# Altium footprint library Connector_Samtec_HLE_SMD.PcbLib: 290 footprints (part 14 of 24)
Each footprint in its own frame and in the unit in brackets; x right, y up, seen from the top. Pads: shape width x height; smd on the part's side, far side on the other; paste and mask are expansions set on the pad; w line width, h text height; cw(c..) or ccw(c..) is an arc to the next point about the centre after c.
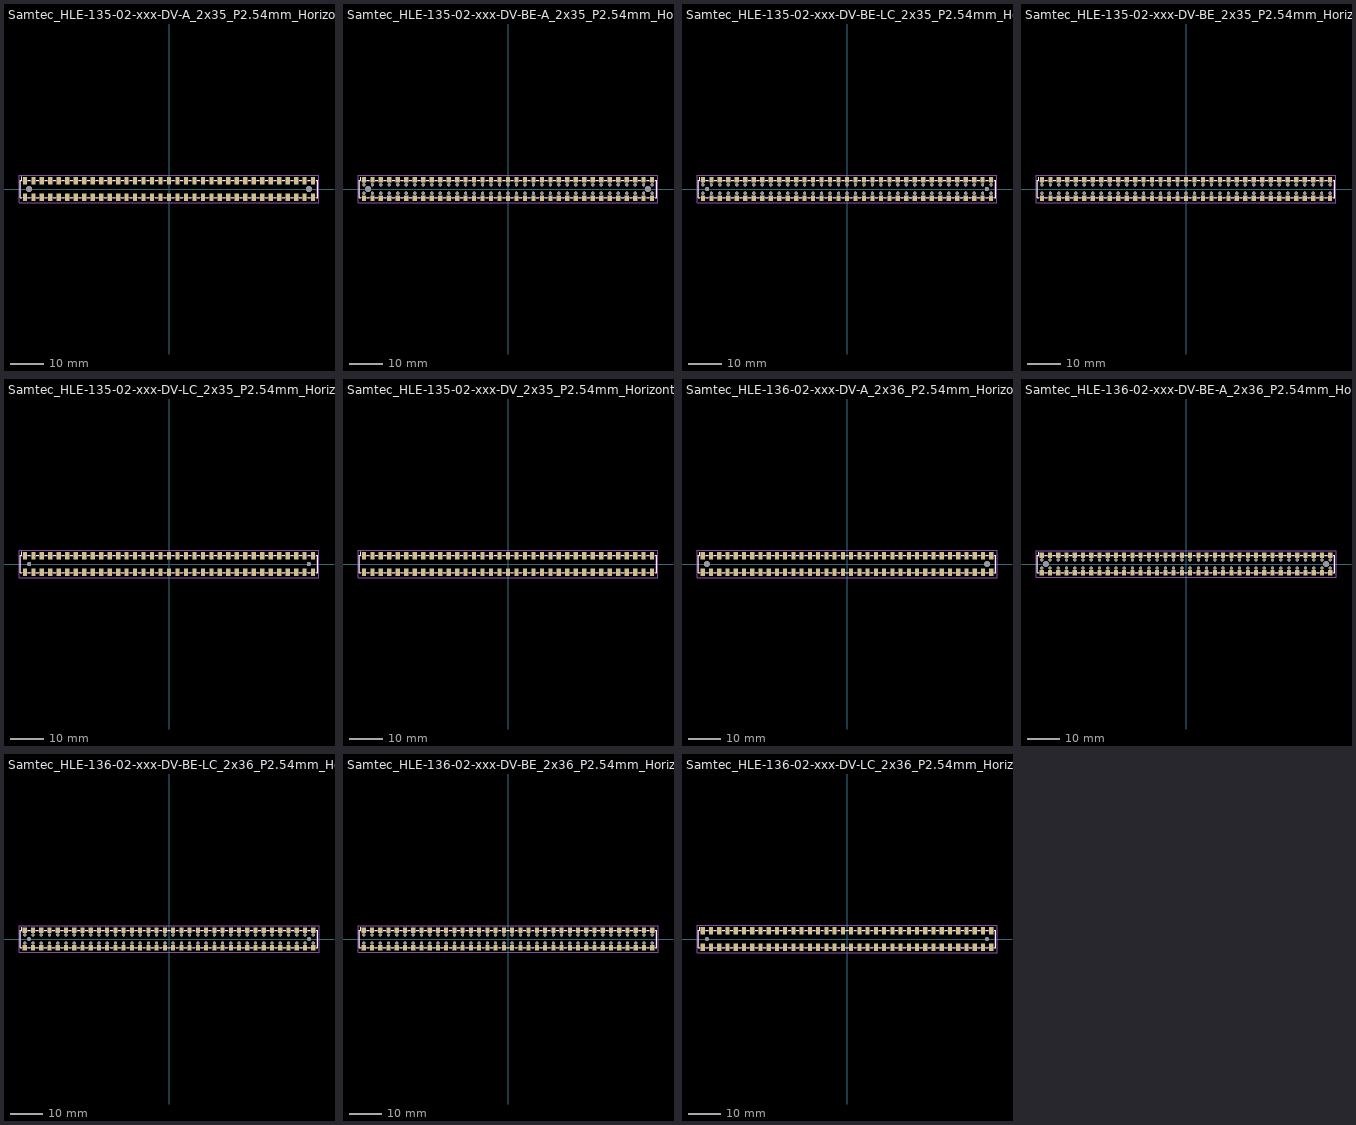
[diagram p13: the footprints below, top view; thin cyan lines are the x and y axes]

## Samtec_HLE-135-02-xxx-DV-A_2x35_P2.54mm_Horizontal [mm]
pads (72):
  rect 1.27x2.29 smd: 1(-43.18,2.525) 2(-43.18,-2.525) 3(-40.64,2.525) 4(-40.64,-2.525) 5(-38.1,2.525) 6(-38.1,-2.525) 7(-35.56,2.525) 8(-35.56,-2.525) 9(-33.02,2.525) 10(-33.02,-2.525) 11(-30.48,2.525) 12(-30.48,-2.525) 13(-27.94,2.525) 14(-27.94,-2.525) 15(-25.4,2.525) 16(-25.4,-2.525) 17(-22.86,2.525) 18(-22.86,-2.525) 19(-20.32,2.525) 20(-20.32,-2.525) 21(-17.78,2.525) 22(-17.78,-2.525) 23(-15.24,2.525) 24(-15.24,-2.525) 25(-12.7,2.525) 26(-12.7,-2.525) 27(-10.16,2.525) 28(-10.16,-2.525) 29(-7.62,2.525) 30(-7.62,-2.525) 31(-5.08,2.525) 32(-5.08,-2.525) 33(-2.54,2.525) 34(-2.54,-2.525) 35(0,2.525) 36(0,-2.525) 37(2.54,2.525) 38(2.54,-2.525) 39(5.08,2.525) 40(5.08,-2.525) 41(7.62,2.525) 42(7.62,-2.525) 43(10.16,2.525) 44(10.16,-2.525) 45(12.7,2.525) 46(12.7,-2.525) 47(15.24,2.525) 48(15.24,-2.525) 49(17.78,2.525) 50(17.78,-2.525) 51(20.32,2.525) 52(20.32,-2.525) 53(22.86,2.525) 54(22.86,-2.525) 55(25.4,2.525) 56(25.4,-2.525) 57(27.94,2.525) 58(27.94,-2.525) 59(30.48,2.525) 60(30.48,-2.525) 61(33.02,2.525) 62(33.02,-2.525) 63(35.56,2.525) 64(35.56,-2.525) 65(38.1,2.525) 66(38.1,-2.525) 67(40.64,2.525) 68(40.64,-2.525) 69(43.18,2.525) 70(43.18,-2.525)
  round 1.78 hole 1.78: Un1(-41.91,0) Un2(41.91,0)
F.SilkS:
  lines w0.254: -44.075,-2.65 -44.56,-2.65 -44.56,2.65 -44.075,2.65 -44.075,3.67 ; -42.285,-2.65 -41.535,-2.65 ; -42.285,2.65 -41.535,2.65 ; -39.745,-2.65 -38.995,-2.65 ; -39.745,2.65 -38.995,2.65 ; -37.205,-2.65 -36.455,-2.65 ; -37.205,2.65 -36.455,2.65 ; -34.665,-2.65 -33.915,-2.65 ; -34.665,2.65 -33.915,2.65 ; -32.125,-2.65 -31.375,-2.65 ; -32.125,2.65 -31.375,2.65 ; -29.585,-2.65 -28.835,-2.65 ; -29.585,2.65 -28.835,2.65 ; -27.045,-2.65 -26.295,-2.65 ; -27.045,2.65 -26.295,2.65 ; -24.505,-2.65 -23.755,-2.65 ; -24.505,2.65 -23.755,2.65 ; -21.965,-2.65 -21.215,-2.65 ; -21.965,2.65 -21.215,2.65 ; -19.425,-2.65 -18.675,-2.65 ; -19.425,2.65 -18.675,2.65 ; -16.885,-2.65 -16.135,-2.65 ; -16.885,2.65 -16.135,2.65 ; -14.345,-2.65 -13.595,-2.65 ; -14.345,2.65 -13.595,2.65 ; -11.805,-2.65 -11.055,-2.65 ; -11.805,2.65 -11.055,2.65 ; -9.265,-2.65 -8.515,-2.65 ; -9.265,2.65 -8.515,2.65 ; -6.725,-2.65 -5.975,-2.65 ; -6.725,2.65 -5.975,2.65 ; -4.185,-2.65 -3.435,-2.65 ; -4.185,2.65 -3.435,2.65 ; -1.645,-2.65 -0.895,-2.65 ; -1.645,2.65 -0.895,2.65 ; 0.895,-2.65 1.645,-2.65 ; 0.895,2.65 1.645,2.65 ; 3.435,-2.65 4.185,-2.65 ; 3.435,2.65 4.185,2.65 ; 5.975,-2.65 6.725,-2.65 ; 5.975,2.65 6.725,2.65 ; 8.515,-2.65 9.265,-2.65 ; 8.515,2.65 9.265,2.65 ; 11.055,-2.65 11.805,-2.65 ; 11.055,2.65 11.805,2.65 ; 13.595,-2.65 14.345,-2.65 ; 13.595,2.65 14.345,2.65 ; 16.135,-2.65 16.885,-2.65 ; 16.135,2.65 16.885,2.65 ; 18.675,-2.65 19.425,-2.65 ; 18.675,2.65 19.425,2.65 ; 21.215,-2.65 21.965,-2.65 ; 21.215,2.65 21.965,2.65 ; 23.755,-2.65 24.505,-2.65 ; 23.755,2.65 24.505,2.65 ; 26.295,-2.65 27.045,-2.65 ; 26.295,2.65 27.045,2.65 ; 28.835,-2.65 29.585,-2.65 ; 28.835,2.65 29.585,2.65 ; 31.375,-2.65 32.125,-2.65 ; 31.375,2.65 32.125,2.65 ; 33.915,-2.65 34.665,-2.65 ; 33.915,2.65 34.665,2.65 ; 36.455,-2.65 37.205,-2.65 ; 36.455,2.65 37.205,2.65 ; 38.995,-2.65 39.745,-2.65 ; 38.995,2.65 39.745,2.65 ; 41.535,-2.65 42.285,-2.65 ; 41.535,2.65 42.285,2.65 ; 44.075,-2.65 44.56,-2.65 44.56,2.65 44.075,2.65
Top Assembly:
  lines w0.254: -43.68,2.54 -43.18,1.833 -42.68,2.54 ; -44.45,-2.54 44.45,-2.54 44.45,2.54 -44.45,2.54 -44.45,-2.54
  text "'.Designator'" at -4.047,-2.68 h1
Top Courtyard:
  lines w0.254: -44.95,-4.17 44.95,-4.17 44.95,4.17 -44.95,4.17 -44.95,-4.17
Top Designator:
  text ".Designator" at -7.618,-0.508 h1.52

## Samtec_HLE-135-02-xxx-DV-BE-A_2x35_P2.54mm_Horizontal [mm]
pads (142):
  rect 1.27x1.68 smd: 1(-43.18,2.72) 2(-43.18,-2.72) 3(-40.64,2.72) 4(-40.64,-2.72) 5(-38.1,2.72) 6(-38.1,-2.72) 7(-35.56,2.72) 8(-35.56,-2.72) 9(-33.02,2.72) 10(-33.02,-2.72) 11(-30.48,2.72) 12(-30.48,-2.72) 13(-27.94,2.72) 14(-27.94,-2.72) 15(-25.4,2.72) 16(-25.4,-2.72) 17(-22.86,2.72) 18(-22.86,-2.72) 19(-20.32,2.72) 20(-20.32,-2.72) 21(-17.78,2.72) 22(-17.78,-2.72) 23(-15.24,2.72) 24(-15.24,-2.72) 25(-12.7,2.72) 26(-12.7,-2.72) 27(-10.16,2.72) 28(-10.16,-2.72) 29(-7.62,2.72) 30(-7.62,-2.72) 31(-5.08,2.72) 32(-5.08,-2.72) 33(-2.54,2.72) 34(-2.54,-2.72) 35(0,2.72) 36(0,-2.72) 37(2.54,2.72) 38(2.54,-2.72) 39(5.08,2.72) 40(5.08,-2.72) 41(7.62,2.72) 42(7.62,-2.72) 43(10.16,2.72) 44(10.16,-2.72) 45(12.7,2.72) 46(12.7,-2.72) 47(15.24,2.72) 48(15.24,-2.72) 49(17.78,2.72) 50(17.78,-2.72) 51(20.32,2.72) 52(20.32,-2.72) 53(22.86,2.72) 54(22.86,-2.72) 55(25.4,2.72) 56(25.4,-2.72) 57(27.94,2.72) 58(27.94,-2.72) 59(30.48,2.72) 60(30.48,-2.72) 61(33.02,2.72) 62(33.02,-2.72) 63(35.56,2.72) 64(35.56,-2.72) 65(38.1,2.72) 66(38.1,-2.72) 67(40.64,2.72) 68(40.64,-2.72) 69(43.18,2.72) 70(43.18,-2.72)
  round 0.97 hole 0.97: Un1(-43.18,1.27) Un2(-43.18,-1.27) Un4(-40.64,1.27) Un5(-40.64,-1.27) Un6(-38.1,1.27) Un7(-38.1,-1.27) Un8(-35.56,1.27) Un9(-35.56,-1.27) Un10(-33.02,1.27) Un11(-33.02,-1.27) Un12(-30.48,1.27) Un13(-30.48,-1.27) Un14(-27.94,1.27) Un15(-27.94,-1.27) Un16(-25.4,1.27) Un17(-25.4,-1.27) Un18(-22.86,1.27) Un19(-22.86,-1.27) Un20(-20.32,1.27) Un21(-20.32,-1.27) Un22(-17.78,1.27) Un23(-17.78,-1.27) Un24(-15.24,1.27) Un25(-15.24,-1.27) Un26(-12.7,1.27) Un27(-12.7,-1.27) Un28(-10.16,1.27) Un29(-10.16,-1.27) Un30(-7.62,1.27) Un31(-7.62,-1.27) Un32(-5.08,1.27) Un33(-5.08,-1.27) Un34(-2.54,1.27) Un35(-2.54,-1.27) Un36(0,1.27) Un37(0,-1.27) Un38(2.54,1.27) Un39(2.54,-1.27) Un40(5.08,1.27) Un41(5.08,-1.27) Un42(7.62,1.27) Un43(7.62,-1.27) Un44(10.16,1.27) Un45(10.16,-1.27) Un46(12.7,1.27) Un47(12.7,-1.27) Un48(15.24,1.27) Un49(15.24,-1.27) Un50(17.78,1.27) Un51(17.78,-1.27) Un52(20.32,1.27) Un53(20.32,-1.27) Un54(22.86,1.27) Un55(22.86,-1.27) Un56(25.4,1.27) Un57(25.4,-1.27) Un58(27.94,1.27) Un59(27.94,-1.27) Un60(30.48,1.27) Un61(30.48,-1.27) Un62(33.02,1.27) Un63(33.02,-1.27) Un64(35.56,1.27) Un65(35.56,-1.27) Un66(38.1,1.27) Un67(38.1,-1.27) Un68(40.64,1.27) Un69(40.64,-1.27) Un71(43.18,1.27) Un72(43.18,-1.27)
  round 1.78 hole 1.78: Un3(-41.91,0) Un70(41.91,0)
F.SilkS:
  lines w0.254: -44.075,-2.65 -44.56,-2.65 -44.56,2.65 -44.075,2.65 -44.075,3.56 ; -42.285,-2.65 -41.535,-2.65 ; -42.285,2.65 -41.535,2.65 ; -39.745,-2.65 -38.995,-2.65 ; -39.745,2.65 -38.995,2.65 ; -37.205,-2.65 -36.455,-2.65 ; -37.205,2.65 -36.455,2.65 ; -34.665,-2.65 -33.915,-2.65 ; -34.665,2.65 -33.915,2.65 ; -32.125,-2.65 -31.375,-2.65 ; -32.125,2.65 -31.375,2.65 ; -29.585,-2.65 -28.835,-2.65 ; -29.585,2.65 -28.835,2.65 ; -27.045,-2.65 -26.295,-2.65 ; -27.045,2.65 -26.295,2.65 ; -24.505,-2.65 -23.755,-2.65 ; -24.505,2.65 -23.755,2.65 ; -21.965,-2.65 -21.215,-2.65 ; -21.965,2.65 -21.215,2.65 ; -19.425,-2.65 -18.675,-2.65 ; -19.425,2.65 -18.675,2.65 ; -16.885,-2.65 -16.135,-2.65 ; -16.885,2.65 -16.135,2.65 ; -14.345,-2.65 -13.595,-2.65 ; -14.345,2.65 -13.595,2.65 ; -11.805,-2.65 -11.055,-2.65 ; -11.805,2.65 -11.055,2.65 ; -9.265,-2.65 -8.515,-2.65 ; -9.265,2.65 -8.515,2.65 ; -6.725,-2.65 -5.975,-2.65 ; -6.725,2.65 -5.975,2.65 ; -4.185,-2.65 -3.435,-2.65 ; -4.185,2.65 -3.435,2.65 ; -1.645,-2.65 -0.895,-2.65 ; -1.645,2.65 -0.895,2.65 ; 0.895,-2.65 1.645,-2.65 ; 0.895,2.65 1.645,2.65 ; 3.435,-2.65 4.185,-2.65 ; 3.435,2.65 4.185,2.65 ; 5.975,-2.65 6.725,-2.65 ; 5.975,2.65 6.725,2.65 ; 8.515,-2.65 9.265,-2.65 ; 8.515,2.65 9.265,2.65 ; 11.055,-2.65 11.805,-2.65 ; 11.055,2.65 11.805,2.65 ; 13.595,-2.65 14.345,-2.65 ; 13.595,2.65 14.345,2.65 ; 16.135,-2.65 16.885,-2.65 ; 16.135,2.65 16.885,2.65 ; 18.675,-2.65 19.425,-2.65 ; 18.675,2.65 19.425,2.65 ; 21.215,-2.65 21.965,-2.65 ; 21.215,2.65 21.965,2.65 ; 23.755,-2.65 24.505,-2.65 ; 23.755,2.65 24.505,2.65 ; 26.295,-2.65 27.045,-2.65 ; 26.295,2.65 27.045,2.65 ; 28.835,-2.65 29.585,-2.65 ; 28.835,2.65 29.585,2.65 ; 31.375,-2.65 32.125,-2.65 ; 31.375,2.65 32.125,2.65 ; 33.915,-2.65 34.665,-2.65 ; 33.915,2.65 34.665,2.65 ; 36.455,-2.65 37.205,-2.65 ; 36.455,2.65 37.205,2.65 ; 38.995,-2.65 39.745,-2.65 ; 38.995,2.65 39.745,2.65 ; 41.535,-2.65 42.285,-2.65 ; 41.535,2.65 42.285,2.65 ; 44.075,-2.65 44.56,-2.65 44.56,2.65 44.075,2.65
Top Assembly:
  lines w0.254: -43.68,2.54 -43.18,1.833 -42.68,2.54 ; -44.45,-2.54 44.45,-2.54 44.45,2.54 -44.45,2.54 -44.45,-2.54
  text "'.Designator'" at -4.047,-2.68 h1
Top Courtyard:
  lines w0.254: -44.95,-4.07 44.95,-4.07 44.95,4.07 -44.95,4.07 -44.95,-4.07
Top Designator:
  text ".Designator" at -7.618,-0.508 h1.52

## Samtec_HLE-135-02-xxx-DV-BE-LC_2x35_P2.54mm_Horizontal [mm]
pads (142):
  rect 1.27x1.68 smd: 1(-43.18,2.72) 2(-43.18,-2.72) 3(-40.64,2.72) 4(-40.64,-2.72) 5(-38.1,2.72) 6(-38.1,-2.72) 7(-35.56,2.72) 8(-35.56,-2.72) 9(-33.02,2.72) 10(-33.02,-2.72) 11(-30.48,2.72) 12(-30.48,-2.72) 13(-27.94,2.72) 14(-27.94,-2.72) 15(-25.4,2.72) 16(-25.4,-2.72) 17(-22.86,2.72) 18(-22.86,-2.72) 19(-20.32,2.72) 20(-20.32,-2.72) 21(-17.78,2.72) 22(-17.78,-2.72) 23(-15.24,2.72) 24(-15.24,-2.72) 25(-12.7,2.72) 26(-12.7,-2.72) 27(-10.16,2.72) 28(-10.16,-2.72) 29(-7.62,2.72) 30(-7.62,-2.72) 31(-5.08,2.72) 32(-5.08,-2.72) 33(-2.54,2.72) 34(-2.54,-2.72) 35(0,2.72) 36(0,-2.72) 37(2.54,2.72) 38(2.54,-2.72) 39(5.08,2.72) 40(5.08,-2.72) 41(7.62,2.72) 42(7.62,-2.72) 43(10.16,2.72) 44(10.16,-2.72) 45(12.7,2.72) 46(12.7,-2.72) 47(15.24,2.72) 48(15.24,-2.72) 49(17.78,2.72) 50(17.78,-2.72) 51(20.32,2.72) 52(20.32,-2.72) 53(22.86,2.72) 54(22.86,-2.72) 55(25.4,2.72) 56(25.4,-2.72) 57(27.94,2.72) 58(27.94,-2.72) 59(30.48,2.72) 60(30.48,-2.72) 61(33.02,2.72) 62(33.02,-2.72) 63(35.56,2.72) 64(35.56,-2.72) 65(38.1,2.72) 66(38.1,-2.72) 67(40.64,2.72) 68(40.64,-2.72) 69(43.18,2.72) 70(43.18,-2.72)
  round 0.97 hole 0.97: Un1(-43.18,1.27) Un2(-43.18,-1.27) Un4(-40.64,1.27) Un5(-40.64,-1.27) Un6(-38.1,1.27) Un7(-38.1,-1.27) Un8(-35.56,1.27) Un9(-35.56,-1.27) Un10(-33.02,1.27) Un11(-33.02,-1.27) Un12(-30.48,1.27) Un13(-30.48,-1.27) Un14(-27.94,1.27) Un15(-27.94,-1.27) Un16(-25.4,1.27) Un17(-25.4,-1.27) Un18(-22.86,1.27) Un19(-22.86,-1.27) Un20(-20.32,1.27) Un21(-20.32,-1.27) Un22(-17.78,1.27) Un23(-17.78,-1.27) Un24(-15.24,1.27) Un25(-15.24,-1.27) Un26(-12.7,1.27) Un27(-12.7,-1.27) Un28(-10.16,1.27) Un29(-10.16,-1.27) Un30(-7.62,1.27) Un31(-7.62,-1.27) Un32(-5.08,1.27) Un33(-5.08,-1.27) Un34(-2.54,1.27) Un35(-2.54,-1.27) Un36(0,1.27) Un37(0,-1.27) Un38(2.54,1.27) Un39(2.54,-1.27) Un40(5.08,1.27) Un41(5.08,-1.27) Un42(7.62,1.27) Un43(7.62,-1.27) Un44(10.16,1.27) Un45(10.16,-1.27) Un46(12.7,1.27) Un47(12.7,-1.27) Un48(15.24,1.27) Un49(15.24,-1.27) Un50(17.78,1.27) Un51(17.78,-1.27) Un52(20.32,1.27) Un53(20.32,-1.27) Un54(22.86,1.27) Un55(22.86,-1.27) Un56(25.4,1.27) Un57(25.4,-1.27) Un58(27.94,1.27) Un59(27.94,-1.27) Un60(30.48,1.27) Un61(30.48,-1.27) Un62(33.02,1.27) Un63(33.02,-1.27) Un64(35.56,1.27) Un65(35.56,-1.27) Un66(38.1,1.27) Un67(38.1,-1.27) Un68(40.64,1.27) Un69(40.64,-1.27) Un71(43.18,1.27) Un72(43.18,-1.27)
  round 1.19 hole 1.19: Un3(-41.91,0) Un70(41.91,0)
F.SilkS:
  lines w0.254: -44.075,-2.65 -44.56,-2.65 -44.56,2.65 -44.075,2.65 -44.075,3.56 ; -42.285,-2.65 -41.535,-2.65 ; -42.285,2.65 -41.535,2.65 ; -39.745,-2.65 -38.995,-2.65 ; -39.745,2.65 -38.995,2.65 ; -37.205,-2.65 -36.455,-2.65 ; -37.205,2.65 -36.455,2.65 ; -34.665,-2.65 -33.915,-2.65 ; -34.665,2.65 -33.915,2.65 ; -32.125,-2.65 -31.375,-2.65 ; -32.125,2.65 -31.375,2.65 ; -29.585,-2.65 -28.835,-2.65 ; -29.585,2.65 -28.835,2.65 ; -27.045,-2.65 -26.295,-2.65 ; -27.045,2.65 -26.295,2.65 ; -24.505,-2.65 -23.755,-2.65 ; -24.505,2.65 -23.755,2.65 ; -21.965,-2.65 -21.215,-2.65 ; -21.965,2.65 -21.215,2.65 ; -19.425,-2.65 -18.675,-2.65 ; -19.425,2.65 -18.675,2.65 ; -16.885,-2.65 -16.135,-2.65 ; -16.885,2.65 -16.135,2.65 ; -14.345,-2.65 -13.595,-2.65 ; -14.345,2.65 -13.595,2.65 ; -11.805,-2.65 -11.055,-2.65 ; -11.805,2.65 -11.055,2.65 ; -9.265,-2.65 -8.515,-2.65 ; -9.265,2.65 -8.515,2.65 ; -6.725,-2.65 -5.975,-2.65 ; -6.725,2.65 -5.975,2.65 ; -4.185,-2.65 -3.435,-2.65 ; -4.185,2.65 -3.435,2.65 ; -1.645,-2.65 -0.895,-2.65 ; -1.645,2.65 -0.895,2.65 ; 0.895,-2.65 1.645,-2.65 ; 0.895,2.65 1.645,2.65 ; 3.435,-2.65 4.185,-2.65 ; 3.435,2.65 4.185,2.65 ; 5.975,-2.65 6.725,-2.65 ; 5.975,2.65 6.725,2.65 ; 8.515,-2.65 9.265,-2.65 ; 8.515,2.65 9.265,2.65 ; 11.055,-2.65 11.805,-2.65 ; 11.055,2.65 11.805,2.65 ; 13.595,-2.65 14.345,-2.65 ; 13.595,2.65 14.345,2.65 ; 16.135,-2.65 16.885,-2.65 ; 16.135,2.65 16.885,2.65 ; 18.675,-2.65 19.425,-2.65 ; 18.675,2.65 19.425,2.65 ; 21.215,-2.65 21.965,-2.65 ; 21.215,2.65 21.965,2.65 ; 23.755,-2.65 24.505,-2.65 ; 23.755,2.65 24.505,2.65 ; 26.295,-2.65 27.045,-2.65 ; 26.295,2.65 27.045,2.65 ; 28.835,-2.65 29.585,-2.65 ; 28.835,2.65 29.585,2.65 ; 31.375,-2.65 32.125,-2.65 ; 31.375,2.65 32.125,2.65 ; 33.915,-2.65 34.665,-2.65 ; 33.915,2.65 34.665,2.65 ; 36.455,-2.65 37.205,-2.65 ; 36.455,2.65 37.205,2.65 ; 38.995,-2.65 39.745,-2.65 ; 38.995,2.65 39.745,2.65 ; 41.535,-2.65 42.285,-2.65 ; 41.535,2.65 42.285,2.65 ; 44.075,-2.65 44.56,-2.65 44.56,2.65 44.075,2.65
Top Assembly:
  lines w0.254: -43.68,2.54 -43.18,1.833 -42.68,2.54 ; -44.45,-2.54 44.45,-2.54 44.45,2.54 -44.45,2.54 -44.45,-2.54
  text "'.Designator'" at -4.047,-2.68 h1
Top Courtyard:
  lines w0.254: -44.95,-4.07 44.95,-4.07 44.95,4.07 -44.95,4.07 -44.95,-4.07
Top Designator:
  text ".Designator" at -7.618,-0.508 h1.52

## Samtec_HLE-135-02-xxx-DV-BE_2x35_P2.54mm_Horizontal [mm]
pads (140):
  rect 1.27x1.68 smd: 1(-43.18,2.72) 2(-43.18,-2.72) 3(-40.64,2.72) 4(-40.64,-2.72) 5(-38.1,2.72) 6(-38.1,-2.72) 7(-35.56,2.72) 8(-35.56,-2.72) 9(-33.02,2.72) 10(-33.02,-2.72) 11(-30.48,2.72) 12(-30.48,-2.72) 13(-27.94,2.72) 14(-27.94,-2.72) 15(-25.4,2.72) 16(-25.4,-2.72) 17(-22.86,2.72) 18(-22.86,-2.72) 19(-20.32,2.72) 20(-20.32,-2.72) 21(-17.78,2.72) 22(-17.78,-2.72) 23(-15.24,2.72) 24(-15.24,-2.72) 25(-12.7,2.72) 26(-12.7,-2.72) 27(-10.16,2.72) 28(-10.16,-2.72) 29(-7.62,2.72) 30(-7.62,-2.72) 31(-5.08,2.72) 32(-5.08,-2.72) 33(-2.54,2.72) 34(-2.54,-2.72) 35(0,2.72) 36(0,-2.72) 37(2.54,2.72) 38(2.54,-2.72) 39(5.08,2.72) 40(5.08,-2.72) 41(7.62,2.72) 42(7.62,-2.72) 43(10.16,2.72) 44(10.16,-2.72) 45(12.7,2.72) 46(12.7,-2.72) 47(15.24,2.72) 48(15.24,-2.72) 49(17.78,2.72) 50(17.78,-2.72) 51(20.32,2.72) 52(20.32,-2.72) 53(22.86,2.72) 54(22.86,-2.72) 55(25.4,2.72) 56(25.4,-2.72) 57(27.94,2.72) 58(27.94,-2.72) 59(30.48,2.72) 60(30.48,-2.72) 61(33.02,2.72) 62(33.02,-2.72) 63(35.56,2.72) 64(35.56,-2.72) 65(38.1,2.72) 66(38.1,-2.72) 67(40.64,2.72) 68(40.64,-2.72) 69(43.18,2.72) 70(43.18,-2.72)
  round 0.97 hole 0.97: Un1(-43.18,1.27) Un2(-43.18,-1.27) Un3(-40.64,1.27) Un4(-40.64,-1.27) Un5(-38.1,1.27) Un6(-38.1,-1.27) Un7(-35.56,1.27) Un8(-35.56,-1.27) Un9(-33.02,1.27) Un10(-33.02,-1.27) Un11(-30.48,1.27) Un12(-30.48,-1.27) Un13(-27.94,1.27) Un14(-27.94,-1.27) Un15(-25.4,1.27) Un16(-25.4,-1.27) Un17(-22.86,1.27) Un18(-22.86,-1.27) Un19(-20.32,1.27) Un20(-20.32,-1.27) Un21(-17.78,1.27) Un22(-17.78,-1.27) Un23(-15.24,1.27) Un24(-15.24,-1.27) Un25(-12.7,1.27) Un26(-12.7,-1.27) Un27(-10.16,1.27) Un28(-10.16,-1.27) Un29(-7.62,1.27) Un30(-7.62,-1.27) Un31(-5.08,1.27) Un32(-5.08,-1.27) Un33(-2.54,1.27) Un34(-2.54,-1.27) Un35(0,1.27) Un36(0,-1.27) Un37(2.54,1.27) Un38(2.54,-1.27) Un39(5.08,1.27) Un40(5.08,-1.27) Un41(7.62,1.27) Un42(7.62,-1.27) Un43(10.16,1.27) Un44(10.16,-1.27) Un45(12.7,1.27) Un46(12.7,-1.27) Un47(15.24,1.27) Un48(15.24,-1.27) Un49(17.78,1.27) Un50(17.78,-1.27) Un51(20.32,1.27) Un52(20.32,-1.27) Un53(22.86,1.27) Un54(22.86,-1.27) Un55(25.4,1.27) Un56(25.4,-1.27) Un57(27.94,1.27) Un58(27.94,-1.27) Un59(30.48,1.27) Un60(30.48,-1.27) Un61(33.02,1.27) Un62(33.02,-1.27) Un63(35.56,1.27) Un64(35.56,-1.27) Un65(38.1,1.27) Un66(38.1,-1.27) Un67(40.64,1.27) Un68(40.64,-1.27) Un69(43.18,1.27) Un70(43.18,-1.27)
F.SilkS:
  lines w0.254: -44.075,-2.65 -44.56,-2.65 -44.56,2.65 -44.075,2.65 -44.075,3.56 ; -42.285,-2.65 -41.535,-2.65 ; -42.285,2.65 -41.535,2.65 ; -39.745,-2.65 -38.995,-2.65 ; -39.745,2.65 -38.995,2.65 ; -37.205,-2.65 -36.455,-2.65 ; -37.205,2.65 -36.455,2.65 ; -34.665,-2.65 -33.915,-2.65 ; -34.665,2.65 -33.915,2.65 ; -32.125,-2.65 -31.375,-2.65 ; -32.125,2.65 -31.375,2.65 ; -29.585,-2.65 -28.835,-2.65 ; -29.585,2.65 -28.835,2.65 ; -27.045,-2.65 -26.295,-2.65 ; -27.045,2.65 -26.295,2.65 ; -24.505,-2.65 -23.755,-2.65 ; -24.505,2.65 -23.755,2.65 ; -21.965,-2.65 -21.215,-2.65 ; -21.965,2.65 -21.215,2.65 ; -19.425,-2.65 -18.675,-2.65 ; -19.425,2.65 -18.675,2.65 ; -16.885,-2.65 -16.135,-2.65 ; -16.885,2.65 -16.135,2.65 ; -14.345,-2.65 -13.595,-2.65 ; -14.345,2.65 -13.595,2.65 ; -11.805,-2.65 -11.055,-2.65 ; -11.805,2.65 -11.055,2.65 ; -9.265,-2.65 -8.515,-2.65 ; -9.265,2.65 -8.515,2.65 ; -6.725,-2.65 -5.975,-2.65 ; -6.725,2.65 -5.975,2.65 ; -4.185,-2.65 -3.435,-2.65 ; -4.185,2.65 -3.435,2.65 ; -1.645,-2.65 -0.895,-2.65 ; -1.645,2.65 -0.895,2.65 ; 0.895,-2.65 1.645,-2.65 ; 0.895,2.65 1.645,2.65 ; 3.435,-2.65 4.185,-2.65 ; 3.435,2.65 4.185,2.65 ; 5.975,-2.65 6.725,-2.65 ; 5.975,2.65 6.725,2.65 ; 8.515,-2.65 9.265,-2.65 ; 8.515,2.65 9.265,2.65 ; 11.055,-2.65 11.805,-2.65 ; 11.055,2.65 11.805,2.65 ; 13.595,-2.65 14.345,-2.65 ; 13.595,2.65 14.345,2.65 ; 16.135,-2.65 16.885,-2.65 ; 16.135,2.65 16.885,2.65 ; 18.675,-2.65 19.425,-2.65 ; 18.675,2.65 19.425,2.65 ; 21.215,-2.65 21.965,-2.65 ; 21.215,2.65 21.965,2.65 ; 23.755,-2.65 24.505,-2.65 ; 23.755,2.65 24.505,2.65 ; 26.295,-2.65 27.045,-2.65 ; 26.295,2.65 27.045,2.65 ; 28.835,-2.65 29.585,-2.65 ; 28.835,2.65 29.585,2.65 ; 31.375,-2.65 32.125,-2.65 ; 31.375,2.65 32.125,2.65 ; 33.915,-2.65 34.665,-2.65 ; 33.915,2.65 34.665,2.65 ; 36.455,-2.65 37.205,-2.65 ; 36.455,2.65 37.205,2.65 ; 38.995,-2.65 39.745,-2.65 ; 38.995,2.65 39.745,2.65 ; 41.535,-2.65 42.285,-2.65 ; 41.535,2.65 42.285,2.65 ; 44.075,-2.65 44.56,-2.65 44.56,2.65 44.075,2.65
Top Assembly:
  lines w0.254: -43.68,2.54 -43.18,1.833 -42.68,2.54 ; -44.45,-2.54 44.45,-2.54 44.45,2.54 -44.45,2.54 -44.45,-2.54
  text "'.Designator'" at -4.047,-2.68 h1
Top Courtyard:
  lines w0.254: -44.95,-4.07 44.95,-4.07 44.95,4.07 -44.95,4.07 -44.95,-4.07
Top Designator:
  text ".Designator" at -7.618,-0.508 h1.52

## Samtec_HLE-135-02-xxx-DV-LC_2x35_P2.54mm_Horizontal [mm]
pads (72):
  rect 1.27x2.29 smd: 1(-43.18,2.525) 2(-43.18,-2.525) 3(-40.64,2.525) 4(-40.64,-2.525) 5(-38.1,2.525) 6(-38.1,-2.525) 7(-35.56,2.525) 8(-35.56,-2.525) 9(-33.02,2.525) 10(-33.02,-2.525) 11(-30.48,2.525) 12(-30.48,-2.525) 13(-27.94,2.525) 14(-27.94,-2.525) 15(-25.4,2.525) 16(-25.4,-2.525) 17(-22.86,2.525) 18(-22.86,-2.525) 19(-20.32,2.525) 20(-20.32,-2.525) 21(-17.78,2.525) 22(-17.78,-2.525) 23(-15.24,2.525) 24(-15.24,-2.525) 25(-12.7,2.525) 26(-12.7,-2.525) 27(-10.16,2.525) 28(-10.16,-2.525) 29(-7.62,2.525) 30(-7.62,-2.525) 31(-5.08,2.525) 32(-5.08,-2.525) 33(-2.54,2.525) 34(-2.54,-2.525) 35(0,2.525) 36(0,-2.525) 37(2.54,2.525) 38(2.54,-2.525) 39(5.08,2.525) 40(5.08,-2.525) 41(7.62,2.525) 42(7.62,-2.525) 43(10.16,2.525) 44(10.16,-2.525) 45(12.7,2.525) 46(12.7,-2.525) 47(15.24,2.525) 48(15.24,-2.525) 49(17.78,2.525) 50(17.78,-2.525) 51(20.32,2.525) 52(20.32,-2.525) 53(22.86,2.525) 54(22.86,-2.525) 55(25.4,2.525) 56(25.4,-2.525) 57(27.94,2.525) 58(27.94,-2.525) 59(30.48,2.525) 60(30.48,-2.525) 61(33.02,2.525) 62(33.02,-2.525) 63(35.56,2.525) 64(35.56,-2.525) 65(38.1,2.525) 66(38.1,-2.525) 67(40.64,2.525) 68(40.64,-2.525) 69(43.18,2.525) 70(43.18,-2.525)
  round 1.19 hole 1.19: Un1(-41.91,0) Un2(41.91,0)
F.SilkS:
  lines w0.254: -44.075,-2.65 -44.56,-2.65 -44.56,2.65 -44.075,2.65 -44.075,3.67 ; -42.285,-2.65 -41.535,-2.65 ; -42.285,2.65 -41.535,2.65 ; -39.745,-2.65 -38.995,-2.65 ; -39.745,2.65 -38.995,2.65 ; -37.205,-2.65 -36.455,-2.65 ; -37.205,2.65 -36.455,2.65 ; -34.665,-2.65 -33.915,-2.65 ; -34.665,2.65 -33.915,2.65 ; -32.125,-2.65 -31.375,-2.65 ; -32.125,2.65 -31.375,2.65 ; -29.585,-2.65 -28.835,-2.65 ; -29.585,2.65 -28.835,2.65 ; -27.045,-2.65 -26.295,-2.65 ; -27.045,2.65 -26.295,2.65 ; -24.505,-2.65 -23.755,-2.65 ; -24.505,2.65 -23.755,2.65 ; -21.965,-2.65 -21.215,-2.65 ; -21.965,2.65 -21.215,2.65 ; -19.425,-2.65 -18.675,-2.65 ; -19.425,2.65 -18.675,2.65 ; -16.885,-2.65 -16.135,-2.65 ; -16.885,2.65 -16.135,2.65 ; -14.345,-2.65 -13.595,-2.65 ; -14.345,2.65 -13.595,2.65 ; -11.805,-2.65 -11.055,-2.65 ; -11.805,2.65 -11.055,2.65 ; -9.265,-2.65 -8.515,-2.65 ; -9.265,2.65 -8.515,2.65 ; -6.725,-2.65 -5.975,-2.65 ; -6.725,2.65 -5.975,2.65 ; -4.185,-2.65 -3.435,-2.65 ; -4.185,2.65 -3.435,2.65 ; -1.645,-2.65 -0.895,-2.65 ; -1.645,2.65 -0.895,2.65 ; 0.895,-2.65 1.645,-2.65 ; 0.895,2.65 1.645,2.65 ; 3.435,-2.65 4.185,-2.65 ; 3.435,2.65 4.185,2.65 ; 5.975,-2.65 6.725,-2.65 ; 5.975,2.65 6.725,2.65 ; 8.515,-2.65 9.265,-2.65 ; 8.515,2.65 9.265,2.65 ; 11.055,-2.65 11.805,-2.65 ; 11.055,2.65 11.805,2.65 ; 13.595,-2.65 14.345,-2.65 ; 13.595,2.65 14.345,2.65 ; 16.135,-2.65 16.885,-2.65 ; 16.135,2.65 16.885,2.65 ; 18.675,-2.65 19.425,-2.65 ; 18.675,2.65 19.425,2.65 ; 21.215,-2.65 21.965,-2.65 ; 21.215,2.65 21.965,2.65 ; 23.755,-2.65 24.505,-2.65 ; 23.755,2.65 24.505,2.65 ; 26.295,-2.65 27.045,-2.65 ; 26.295,2.65 27.045,2.65 ; 28.835,-2.65 29.585,-2.65 ; 28.835,2.65 29.585,2.65 ; 31.375,-2.65 32.125,-2.65 ; 31.375,2.65 32.125,2.65 ; 33.915,-2.65 34.665,-2.65 ; 33.915,2.65 34.665,2.65 ; 36.455,-2.65 37.205,-2.65 ; 36.455,2.65 37.205,2.65 ; 38.995,-2.65 39.745,-2.65 ; 38.995,2.65 39.745,2.65 ; 41.535,-2.65 42.285,-2.65 ; 41.535,2.65 42.285,2.65 ; 44.075,-2.65 44.56,-2.65 44.56,2.65 44.075,2.65
Top Assembly:
  lines w0.254: -43.68,2.54 -43.18,1.833 -42.68,2.54 ; -44.45,-2.54 44.45,-2.54 44.45,2.54 -44.45,2.54 -44.45,-2.54
  text "'.Designator'" at -4.047,-2.68 h1
Top Courtyard:
  lines w0.254: -44.95,-4.17 44.95,-4.17 44.95,4.17 -44.95,4.17 -44.95,-4.17
Top Designator:
  text ".Designator" at -7.618,-0.508 h1.52

## Samtec_HLE-135-02-xxx-DV_2x35_P2.54mm_Horizontal [mm]
pads (70):
  rect 1.27x2.29 smd: 1(-43.18,2.525) 2(-43.18,-2.525) 3(-40.64,2.525) 4(-40.64,-2.525) 5(-38.1,2.525) 6(-38.1,-2.525) 7(-35.56,2.525) 8(-35.56,-2.525) 9(-33.02,2.525) 10(-33.02,-2.525) 11(-30.48,2.525) 12(-30.48,-2.525) 13(-27.94,2.525) 14(-27.94,-2.525) 15(-25.4,2.525) 16(-25.4,-2.525) 17(-22.86,2.525) 18(-22.86,-2.525) 19(-20.32,2.525) 20(-20.32,-2.525) 21(-17.78,2.525) 22(-17.78,-2.525) 23(-15.24,2.525) 24(-15.24,-2.525) 25(-12.7,2.525) 26(-12.7,-2.525) 27(-10.16,2.525) 28(-10.16,-2.525) 29(-7.62,2.525) 30(-7.62,-2.525) 31(-5.08,2.525) 32(-5.08,-2.525) 33(-2.54,2.525) 34(-2.54,-2.525) 35(0,2.525) 36(0,-2.525) 37(2.54,2.525) 38(2.54,-2.525) 39(5.08,2.525) 40(5.08,-2.525) 41(7.62,2.525) 42(7.62,-2.525) 43(10.16,2.525) 44(10.16,-2.525) 45(12.7,2.525) 46(12.7,-2.525) 47(15.24,2.525) 48(15.24,-2.525) 49(17.78,2.525) 50(17.78,-2.525) 51(20.32,2.525) 52(20.32,-2.525) 53(22.86,2.525) 54(22.86,-2.525) 55(25.4,2.525) 56(25.4,-2.525) 57(27.94,2.525) 58(27.94,-2.525) 59(30.48,2.525) 60(30.48,-2.525) 61(33.02,2.525) 62(33.02,-2.525) 63(35.56,2.525) 64(35.56,-2.525) 65(38.1,2.525) 66(38.1,-2.525) 67(40.64,2.525) 68(40.64,-2.525) 69(43.18,2.525) 70(43.18,-2.525)
F.SilkS:
  lines w0.254: -44.075,-2.65 -44.56,-2.65 -44.56,2.65 -44.075,2.65 -44.075,3.67 ; -42.285,-2.65 -41.535,-2.65 ; -42.285,2.65 -41.535,2.65 ; -39.745,-2.65 -38.995,-2.65 ; -39.745,2.65 -38.995,2.65 ; -37.205,-2.65 -36.455,-2.65 ; -37.205,2.65 -36.455,2.65 ; -34.665,-2.65 -33.915,-2.65 ; -34.665,2.65 -33.915,2.65 ; -32.125,-2.65 -31.375,-2.65 ; -32.125,2.65 -31.375,2.65 ; -29.585,-2.65 -28.835,-2.65 ; -29.585,2.65 -28.835,2.65 ; -27.045,-2.65 -26.295,-2.65 ; -27.045,2.65 -26.295,2.65 ; -24.505,-2.65 -23.755,-2.65 ; -24.505,2.65 -23.755,2.65 ; -21.965,-2.65 -21.215,-2.65 ; -21.965,2.65 -21.215,2.65 ; -19.425,-2.65 -18.675,-2.65 ; -19.425,2.65 -18.675,2.65 ; -16.885,-2.65 -16.135,-2.65 ; -16.885,2.65 -16.135,2.65 ; -14.345,-2.65 -13.595,-2.65 ; -14.345,2.65 -13.595,2.65 ; -11.805,-2.65 -11.055,-2.65 ; -11.805,2.65 -11.055,2.65 ; -9.265,-2.65 -8.515,-2.65 ; -9.265,2.65 -8.515,2.65 ; -6.725,-2.65 -5.975,-2.65 ; -6.725,2.65 -5.975,2.65 ; -4.185,-2.65 -3.435,-2.65 ; -4.185,2.65 -3.435,2.65 ; -1.645,-2.65 -0.895,-2.65 ; -1.645,2.65 -0.895,2.65 ; 0.895,-2.65 1.645,-2.65 ; 0.895,2.65 1.645,2.65 ; 3.435,-2.65 4.185,-2.65 ; 3.435,2.65 4.185,2.65 ; 5.975,-2.65 6.725,-2.65 ; 5.975,2.65 6.725,2.65 ; 8.515,-2.65 9.265,-2.65 ; 8.515,2.65 9.265,2.65 ; 11.055,-2.65 11.805,-2.65 ; 11.055,2.65 11.805,2.65 ; 13.595,-2.65 14.345,-2.65 ; 13.595,2.65 14.345,2.65 ; 16.135,-2.65 16.885,-2.65 ; 16.135,2.65 16.885,2.65 ; 18.675,-2.65 19.425,-2.65 ; 18.675,2.65 19.425,2.65 ; 21.215,-2.65 21.965,-2.65 ; 21.215,2.65 21.965,2.65 ; 23.755,-2.65 24.505,-2.65 ; 23.755,2.65 24.505,2.65 ; 26.295,-2.65 27.045,-2.65 ; 26.295,2.65 27.045,2.65 ; 28.835,-2.65 29.585,-2.65 ; 28.835,2.65 29.585,2.65 ; 31.375,-2.65 32.125,-2.65 ; 31.375,2.65 32.125,2.65 ; 33.915,-2.65 34.665,-2.65 ; 33.915,2.65 34.665,2.65 ; 36.455,-2.65 37.205,-2.65 ; 36.455,2.65 37.205,2.65 ; 38.995,-2.65 39.745,-2.65 ; 38.995,2.65 39.745,2.65 ; 41.535,-2.65 42.285,-2.65 ; 41.535,2.65 42.285,2.65 ; 44.075,-2.65 44.56,-2.65 44.56,2.65 44.075,2.65
Top Assembly:
  lines w0.254: -43.68,2.54 -43.18,1.833 -42.68,2.54 ; -44.45,-2.54 44.45,-2.54 44.45,2.54 -44.45,2.54 -44.45,-2.54
  text "'.Designator'" at -4.047,-2.68 h1
Top Courtyard:
  lines w0.254: -44.95,-4.17 44.95,-4.17 44.95,4.17 -44.95,4.17 -44.95,-4.17
Top Designator:
  text ".Designator" at -7.618,-0.508 h1.52

## Samtec_HLE-136-02-xxx-DV-A_2x36_P2.54mm_Horizontal [mm]
pads (74):
  rect 1.27x2.29 smd: 1(-44.45,2.525) 2(-44.45,-2.525) 3(-41.91,2.525) 4(-41.91,-2.525) 5(-39.37,2.525) 6(-39.37,-2.525) 7(-36.83,2.525) 8(-36.83,-2.525) 9(-34.29,2.525) 10(-34.29,-2.525) 11(-31.75,2.525) 12(-31.75,-2.525) 13(-29.21,2.525) 14(-29.21,-2.525) 15(-26.67,2.525) 16(-26.67,-2.525) 17(-24.13,2.525) 18(-24.13,-2.525) 19(-21.59,2.525) 20(-21.59,-2.525) 21(-19.05,2.525) 22(-19.05,-2.525) 23(-16.51,2.525) 24(-16.51,-2.525) 25(-13.97,2.525) 26(-13.97,-2.525) 27(-11.43,2.525) 28(-11.43,-2.525) 29(-8.89,2.525) 30(-8.89,-2.525) 31(-6.35,2.525) 32(-6.35,-2.525) 33(-3.81,2.525) 34(-3.81,-2.525) 35(-1.27,2.525) 36(-1.27,-2.525) 37(1.27,2.525) 38(1.27,-2.525) 39(3.81,2.525) 40(3.81,-2.525) 41(6.35,2.525) 42(6.35,-2.525) 43(8.89,2.525) 44(8.89,-2.525) 45(11.43,2.525) 46(11.43,-2.525) 47(13.97,2.525) 48(13.97,-2.525) 49(16.51,2.525) 50(16.51,-2.525) 51(19.05,2.525) 52(19.05,-2.525) 53(21.59,2.525) 54(21.59,-2.525) 55(24.13,2.525) 56(24.13,-2.525) 57(26.67,2.525) 58(26.67,-2.525) 59(29.21,2.525) 60(29.21,-2.525) 61(31.75,2.525) 62(31.75,-2.525) 63(34.29,2.525) 64(34.29,-2.525) 65(36.83,2.525) 66(36.83,-2.525) 67(39.37,2.525) 68(39.37,-2.525) 69(41.91,2.525) 70(41.91,-2.525) 71(44.45,2.525) 72(44.45,-2.525)
  round 1.78 hole 1.78: Un1(-43.18,0) Un2(43.18,0)
F.SilkS:
  lines w0.254: -45.345,-2.65 -45.83,-2.65 -45.83,2.65 -45.345,2.65 -45.345,3.67 ; -43.555,-2.65 -42.805,-2.65 ; -43.555,2.65 -42.805,2.65 ; -41.015,-2.65 -40.265,-2.65 ; -41.015,2.65 -40.265,2.65 ; -38.475,-2.65 -37.725,-2.65 ; -38.475,2.65 -37.725,2.65 ; -35.935,-2.65 -35.185,-2.65 ; -35.935,2.65 -35.185,2.65 ; -33.395,-2.65 -32.645,-2.65 ; -33.395,2.65 -32.645,2.65 ; -30.855,-2.65 -30.105,-2.65 ; -30.855,2.65 -30.105,2.65 ; -28.315,-2.65 -27.565,-2.65 ; -28.315,2.65 -27.565,2.65 ; -25.775,-2.65 -25.025,-2.65 ; -25.775,2.65 -25.025,2.65 ; -23.235,-2.65 -22.485,-2.65 ; -23.235,2.65 -22.485,2.65 ; -20.695,-2.65 -19.945,-2.65 ; -20.695,2.65 -19.945,2.65 ; -18.155,-2.65 -17.405,-2.65 ; -18.155,2.65 -17.405,2.65 ; -15.615,-2.65 -14.865,-2.65 ; -15.615,2.65 -14.865,2.65 ; -13.075,-2.65 -12.325,-2.65 ; -13.075,2.65 -12.325,2.65 ; -10.535,-2.65 -9.785,-2.65 ; -10.535,2.65 -9.785,2.65 ; -7.995,-2.65 -7.245,-2.65 ; -7.995,2.65 -7.245,2.65 ; -5.455,-2.65 -4.705,-2.65 ; -5.455,2.65 -4.705,2.65 ; -2.915,-2.65 -2.165,-2.65 ; -2.915,2.65 -2.165,2.65 ; -0.375,-2.65 0.375,-2.65 ; -0.375,2.65 0.375,2.65 ; 2.165,-2.65 2.915,-2.65 ; 2.165,2.65 2.915,2.65 ; 4.705,-2.65 5.455,-2.65 ; 4.705,2.65 5.455,2.65 ; 7.245,-2.65 7.995,-2.65 ; 7.245,2.65 7.995,2.65 ; 9.785,-2.65 10.535,-2.65 ; 9.785,2.65 10.535,2.65 ; 12.325,-2.65 13.075,-2.65 ; 12.325,2.65 13.075,2.65 ; 14.865,-2.65 15.615,-2.65 ; 14.865,2.65 15.615,2.65 ; 17.405,-2.65 18.155,-2.65 ; 17.405,2.65 18.155,2.65 ; 19.945,-2.65 20.695,-2.65 ; 19.945,2.65 20.695,2.65 ; 22.485,-2.65 23.235,-2.65 ; 22.485,2.65 23.235,2.65 ; 25.025,-2.65 25.775,-2.65 ; 25.025,2.65 25.775,2.65 ; 27.565,-2.65 28.315,-2.65 ; 27.565,2.65 28.315,2.65 ; 30.105,-2.65 30.855,-2.65 ; 30.105,2.65 30.855,2.65 ; 32.645,-2.65 33.395,-2.65 ; 32.645,2.65 33.395,2.65 ; 35.185,-2.65 35.935,-2.65 ; 35.185,2.65 35.935,2.65 ; 37.725,-2.65 38.475,-2.65 ; 37.725,2.65 38.475,2.65 ; 40.265,-2.65 41.015,-2.65 ; 40.265,2.65 41.015,2.65 ; 42.805,-2.65 43.555,-2.65 ; 42.805,2.65 43.555,2.65 ; 45.345,-2.65 45.83,-2.65 45.83,2.65 45.345,2.65
Top Assembly:
  lines w0.254: -44.95,2.54 -44.45,1.833 -43.95,2.54 ; -45.72,-2.54 45.72,-2.54 45.72,2.54 -45.72,2.54 -45.72,-2.54
  text "'.Designator'" at -4.047,-2.68 h1
Top Courtyard:
  lines w0.254: -46.22,-4.17 46.22,-4.17 46.22,4.17 -46.22,4.17 -46.22,-4.17
Top Designator:
  text ".Designator" at -7.618,-0.508 h1.52

## Samtec_HLE-136-02-xxx-DV-BE-A_2x36_P2.54mm_Horizontal [mm]
pads (146):
  rect 1.27x1.68 smd: 1(-44.45,2.72) 2(-44.45,-2.72) 3(-41.91,2.72) 4(-41.91,-2.72) 5(-39.37,2.72) 6(-39.37,-2.72) 7(-36.83,2.72) 8(-36.83,-2.72) 9(-34.29,2.72) 10(-34.29,-2.72) 11(-31.75,2.72) 12(-31.75,-2.72) 13(-29.21,2.72) 14(-29.21,-2.72) 15(-26.67,2.72) 16(-26.67,-2.72) 17(-24.13,2.72) 18(-24.13,-2.72) 19(-21.59,2.72) 20(-21.59,-2.72) 21(-19.05,2.72) 22(-19.05,-2.72) 23(-16.51,2.72) 24(-16.51,-2.72) 25(-13.97,2.72) 26(-13.97,-2.72) 27(-11.43,2.72) 28(-11.43,-2.72) 29(-8.89,2.72) 30(-8.89,-2.72) 31(-6.35,2.72) 32(-6.35,-2.72) 33(-3.81,2.72) 34(-3.81,-2.72) 35(-1.27,2.72) 36(-1.27,-2.72) 37(1.27,2.72) 38(1.27,-2.72) 39(3.81,2.72) 40(3.81,-2.72) 41(6.35,2.72) 42(6.35,-2.72) 43(8.89,2.72) 44(8.89,-2.72) 45(11.43,2.72) 46(11.43,-2.72) 47(13.97,2.72) 48(13.97,-2.72) 49(16.51,2.72) 50(16.51,-2.72) 51(19.05,2.72) 52(19.05,-2.72) 53(21.59,2.72) 54(21.59,-2.72) 55(24.13,2.72) 56(24.13,-2.72) 57(26.67,2.72) 58(26.67,-2.72) 59(29.21,2.72) 60(29.21,-2.72) 61(31.75,2.72) 62(31.75,-2.72) 63(34.29,2.72) 64(34.29,-2.72) 65(36.83,2.72) 66(36.83,-2.72) 67(39.37,2.72) 68(39.37,-2.72) 69(41.91,2.72) 70(41.91,-2.72) 71(44.45,2.72) 72(44.45,-2.72)
  round 0.97 hole 0.97: Un1(-44.45,1.27) Un2(-44.45,-1.27) Un4(-41.91,1.27) Un5(-41.91,-1.27) Un6(-39.37,1.27) Un7(-39.37,-1.27) Un8(-36.83,1.27) Un9(-36.83,-1.27) Un10(-34.29,1.27) Un11(-34.29,-1.27) Un12(-31.75,1.27) Un13(-31.75,-1.27) Un14(-29.21,1.27) Un15(-29.21,-1.27) Un16(-26.67,1.27) Un17(-26.67,-1.27) Un18(-24.13,1.27) Un19(-24.13,-1.27) Un20(-21.59,1.27) Un21(-21.59,-1.27) Un22(-19.05,1.27) Un23(-19.05,-1.27) Un24(-16.51,1.27) Un25(-16.51,-1.27) Un26(-13.97,1.27) Un27(-13.97,-1.27) Un28(-11.43,1.27) Un29(-11.43,-1.27) Un30(-8.89,1.27) Un31(-8.89,-1.27) Un32(-6.35,1.27) Un33(-6.35,-1.27) Un34(-3.81,1.27) Un35(-3.81,-1.27) Un36(-1.27,1.27) Un37(-1.27,-1.27) Un38(1.27,1.27) Un39(1.27,-1.27) Un40(3.81,1.27) Un41(3.81,-1.27) Un42(6.35,1.27) Un43(6.35,-1.27) Un44(8.89,1.27) Un45(8.89,-1.27) Un46(11.43,1.27) Un47(11.43,-1.27) Un48(13.97,1.27) Un49(13.97,-1.27) Un50(16.51,1.27) Un51(16.51,-1.27) Un52(19.05,1.27) Un53(19.05,-1.27) Un54(21.59,1.27) Un55(21.59,-1.27) Un56(24.13,1.27) Un57(24.13,-1.27) Un58(26.67,1.27) Un59(26.67,-1.27) Un60(29.21,1.27) Un61(29.21,-1.27) Un62(31.75,1.27) Un63(31.75,-1.27) Un64(34.29,1.27) Un65(34.29,-1.27) Un66(36.83,1.27) Un67(36.83,-1.27) Un68(39.37,1.27) Un69(39.37,-1.27) Un70(41.91,1.27) Un71(41.91,-1.27) Un73(44.45,1.27) Un74(44.45,-1.27)
  round 1.78 hole 1.78: Un3(-43.18,0) Un72(43.18,0)
F.SilkS:
  lines w0.254: -45.345,-2.65 -45.83,-2.65 -45.83,2.65 -45.345,2.65 -45.345,3.56 ; -43.555,-2.65 -42.805,-2.65 ; -43.555,2.65 -42.805,2.65 ; -41.015,-2.65 -40.265,-2.65 ; -41.015,2.65 -40.265,2.65 ; -38.475,-2.65 -37.725,-2.65 ; -38.475,2.65 -37.725,2.65 ; -35.935,-2.65 -35.185,-2.65 ; -35.935,2.65 -35.185,2.65 ; -33.395,-2.65 -32.645,-2.65 ; -33.395,2.65 -32.645,2.65 ; -30.855,-2.65 -30.105,-2.65 ; -30.855,2.65 -30.105,2.65 ; -28.315,-2.65 -27.565,-2.65 ; -28.315,2.65 -27.565,2.65 ; -25.775,-2.65 -25.025,-2.65 ; -25.775,2.65 -25.025,2.65 ; -23.235,-2.65 -22.485,-2.65 ; -23.235,2.65 -22.485,2.65 ; -20.695,-2.65 -19.945,-2.65 ; -20.695,2.65 -19.945,2.65 ; -18.155,-2.65 -17.405,-2.65 ; -18.155,2.65 -17.405,2.65 ; -15.615,-2.65 -14.865,-2.65 ; -15.615,2.65 -14.865,2.65 ; -13.075,-2.65 -12.325,-2.65 ; -13.075,2.65 -12.325,2.65 ; -10.535,-2.65 -9.785,-2.65 ; -10.535,2.65 -9.785,2.65 ; -7.995,-2.65 -7.245,-2.65 ; -7.995,2.65 -7.245,2.65 ; -5.455,-2.65 -4.705,-2.65 ; -5.455,2.65 -4.705,2.65 ; -2.915,-2.65 -2.165,-2.65 ; -2.915,2.65 -2.165,2.65 ; -0.375,-2.65 0.375,-2.65 ; -0.375,2.65 0.375,2.65 ; 2.165,-2.65 2.915,-2.65 ; 2.165,2.65 2.915,2.65 ; 4.705,-2.65 5.455,-2.65 ; 4.705,2.65 5.455,2.65 ; 7.245,-2.65 7.995,-2.65 ; 7.245,2.65 7.995,2.65 ; 9.785,-2.65 10.535,-2.65 ; 9.785,2.65 10.535,2.65 ; 12.325,-2.65 13.075,-2.65 ; 12.325,2.65 13.075,2.65 ; 14.865,-2.65 15.615,-2.65 ; 14.865,2.65 15.615,2.65 ; 17.405,-2.65 18.155,-2.65 ; 17.405,2.65 18.155,2.65 ; 19.945,-2.65 20.695,-2.65 ; 19.945,2.65 20.695,2.65 ; 22.485,-2.65 23.235,-2.65 ; 22.485,2.65 23.235,2.65 ; 25.025,-2.65 25.775,-2.65 ; 25.025,2.65 25.775,2.65 ; 27.565,-2.65 28.315,-2.65 ; 27.565,2.65 28.315,2.65 ; 30.105,-2.65 30.855,-2.65 ; 30.105,2.65 30.855,2.65 ; 32.645,-2.65 33.395,-2.65 ; 32.645,2.65 33.395,2.65 ; 35.185,-2.65 35.935,-2.65 ; 35.185,2.65 35.935,2.65 ; 37.725,-2.65 38.475,-2.65 ; 37.725,2.65 38.475,2.65 ; 40.265,-2.65 41.015,-2.65 ; 40.265,2.65 41.015,2.65 ; 42.805,-2.65 43.555,-2.65 ; 42.805,2.65 43.555,2.65 ; 45.345,-2.65 45.83,-2.65 45.83,2.65 45.345,2.65
Top Assembly:
  lines w0.254: -44.95,2.54 -44.45,1.833 -43.95,2.54 ; -45.72,-2.54 45.72,-2.54 45.72,2.54 -45.72,2.54 -45.72,-2.54
  text "'.Designator'" at -4.047,-2.68 h1
Top Courtyard:
  lines w0.254: -46.22,-4.07 46.22,-4.07 46.22,4.07 -46.22,4.07 -46.22,-4.07
Top Designator:
  text ".Designator" at -7.618,-0.508 h1.52

## Samtec_HLE-136-02-xxx-DV-BE-LC_2x36_P2.54mm_Horizontal [mm]
pads (146):
  rect 1.27x1.68 smd: 1(-44.45,2.72) 2(-44.45,-2.72) 3(-41.91,2.72) 4(-41.91,-2.72) 5(-39.37,2.72) 6(-39.37,-2.72) 7(-36.83,2.72) 8(-36.83,-2.72) 9(-34.29,2.72) 10(-34.29,-2.72) 11(-31.75,2.72) 12(-31.75,-2.72) 13(-29.21,2.72) 14(-29.21,-2.72) 15(-26.67,2.72) 16(-26.67,-2.72) 17(-24.13,2.72) 18(-24.13,-2.72) 19(-21.59,2.72) 20(-21.59,-2.72) 21(-19.05,2.72) 22(-19.05,-2.72) 23(-16.51,2.72) 24(-16.51,-2.72) 25(-13.97,2.72) 26(-13.97,-2.72) 27(-11.43,2.72) 28(-11.43,-2.72) 29(-8.89,2.72) 30(-8.89,-2.72) 31(-6.35,2.72) 32(-6.35,-2.72) 33(-3.81,2.72) 34(-3.81,-2.72) 35(-1.27,2.72) 36(-1.27,-2.72) 37(1.27,2.72) 38(1.27,-2.72) 39(3.81,2.72) 40(3.81,-2.72) 41(6.35,2.72) 42(6.35,-2.72) 43(8.89,2.72) 44(8.89,-2.72) 45(11.43,2.72) 46(11.43,-2.72) 47(13.97,2.72) 48(13.97,-2.72) 49(16.51,2.72) 50(16.51,-2.72) 51(19.05,2.72) 52(19.05,-2.72) 53(21.59,2.72) 54(21.59,-2.72) 55(24.13,2.72) 56(24.13,-2.72) 57(26.67,2.72) 58(26.67,-2.72) 59(29.21,2.72) 60(29.21,-2.72) 61(31.75,2.72) 62(31.75,-2.72) 63(34.29,2.72) 64(34.29,-2.72) 65(36.83,2.72) 66(36.83,-2.72) 67(39.37,2.72) 68(39.37,-2.72) 69(41.91,2.72) 70(41.91,-2.72) 71(44.45,2.72) 72(44.45,-2.72)
  round 0.97 hole 0.97: Un1(-44.45,1.27) Un2(-44.45,-1.27) Un4(-41.91,1.27) Un5(-41.91,-1.27) Un6(-39.37,1.27) Un7(-39.37,-1.27) Un8(-36.83,1.27) Un9(-36.83,-1.27) Un10(-34.29,1.27) Un11(-34.29,-1.27) Un12(-31.75,1.27) Un13(-31.75,-1.27) Un14(-29.21,1.27) Un15(-29.21,-1.27) Un16(-26.67,1.27) Un17(-26.67,-1.27) Un18(-24.13,1.27) Un19(-24.13,-1.27) Un20(-21.59,1.27) Un21(-21.59,-1.27) Un22(-19.05,1.27) Un23(-19.05,-1.27) Un24(-16.51,1.27) Un25(-16.51,-1.27) Un26(-13.97,1.27) Un27(-13.97,-1.27) Un28(-11.43,1.27) Un29(-11.43,-1.27) Un30(-8.89,1.27) Un31(-8.89,-1.27) Un32(-6.35,1.27) Un33(-6.35,-1.27) Un34(-3.81,1.27) Un35(-3.81,-1.27) Un36(-1.27,1.27) Un37(-1.27,-1.27) Un38(1.27,1.27) Un39(1.27,-1.27) Un40(3.81,1.27) Un41(3.81,-1.27) Un42(6.35,1.27) Un43(6.35,-1.27) Un44(8.89,1.27) Un45(8.89,-1.27) Un46(11.43,1.27) Un47(11.43,-1.27) Un48(13.97,1.27) Un49(13.97,-1.27) Un50(16.51,1.27) Un51(16.51,-1.27) Un52(19.05,1.27) Un53(19.05,-1.27) Un54(21.59,1.27) Un55(21.59,-1.27) Un56(24.13,1.27) Un57(24.13,-1.27) Un58(26.67,1.27) Un59(26.67,-1.27) Un60(29.21,1.27) Un61(29.21,-1.27) Un62(31.75,1.27) Un63(31.75,-1.27) Un64(34.29,1.27) Un65(34.29,-1.27) Un66(36.83,1.27) Un67(36.83,-1.27) Un68(39.37,1.27) Un69(39.37,-1.27) Un70(41.91,1.27) Un71(41.91,-1.27) Un73(44.45,1.27) Un74(44.45,-1.27)
  round 1.19 hole 1.19: Un3(-43.18,0) Un72(43.18,0)
F.SilkS:
  lines w0.254: -45.345,-2.65 -45.83,-2.65 -45.83,2.65 -45.345,2.65 -45.345,3.56 ; -43.555,-2.65 -42.805,-2.65 ; -43.555,2.65 -42.805,2.65 ; -41.015,-2.65 -40.265,-2.65 ; -41.015,2.65 -40.265,2.65 ; -38.475,-2.65 -37.725,-2.65 ; -38.475,2.65 -37.725,2.65 ; -35.935,-2.65 -35.185,-2.65 ; -35.935,2.65 -35.185,2.65 ; -33.395,-2.65 -32.645,-2.65 ; -33.395,2.65 -32.645,2.65 ; -30.855,-2.65 -30.105,-2.65 ; -30.855,2.65 -30.105,2.65 ; -28.315,-2.65 -27.565,-2.65 ; -28.315,2.65 -27.565,2.65 ; -25.775,-2.65 -25.025,-2.65 ; -25.775,2.65 -25.025,2.65 ; -23.235,-2.65 -22.485,-2.65 ; -23.235,2.65 -22.485,2.65 ; -20.695,-2.65 -19.945,-2.65 ; -20.695,2.65 -19.945,2.65 ; -18.155,-2.65 -17.405,-2.65 ; -18.155,2.65 -17.405,2.65 ; -15.615,-2.65 -14.865,-2.65 ; -15.615,2.65 -14.865,2.65 ; -13.075,-2.65 -12.325,-2.65 ; -13.075,2.65 -12.325,2.65 ; -10.535,-2.65 -9.785,-2.65 ; -10.535,2.65 -9.785,2.65 ; -7.995,-2.65 -7.245,-2.65 ; -7.995,2.65 -7.245,2.65 ; -5.455,-2.65 -4.705,-2.65 ; -5.455,2.65 -4.705,2.65 ; -2.915,-2.65 -2.165,-2.65 ; -2.915,2.65 -2.165,2.65 ; -0.375,-2.65 0.375,-2.65 ; -0.375,2.65 0.375,2.65 ; 2.165,-2.65 2.915,-2.65 ; 2.165,2.65 2.915,2.65 ; 4.705,-2.65 5.455,-2.65 ; 4.705,2.65 5.455,2.65 ; 7.245,-2.65 7.995,-2.65 ; 7.245,2.65 7.995,2.65 ; 9.785,-2.65 10.535,-2.65 ; 9.785,2.65 10.535,2.65 ; 12.325,-2.65 13.075,-2.65 ; 12.325,2.65 13.075,2.65 ; 14.865,-2.65 15.615,-2.65 ; 14.865,2.65 15.615,2.65 ; 17.405,-2.65 18.155,-2.65 ; 17.405,2.65 18.155,2.65 ; 19.945,-2.65 20.695,-2.65 ; 19.945,2.65 20.695,2.65 ; 22.485,-2.65 23.235,-2.65 ; 22.485,2.65 23.235,2.65 ; 25.025,-2.65 25.775,-2.65 ; 25.025,2.65 25.775,2.65 ; 27.565,-2.65 28.315,-2.65 ; 27.565,2.65 28.315,2.65 ; 30.105,-2.65 30.855,-2.65 ; 30.105,2.65 30.855,2.65 ; 32.645,-2.65 33.395,-2.65 ; 32.645,2.65 33.395,2.65 ; 35.185,-2.65 35.935,-2.65 ; 35.185,2.65 35.935,2.65 ; 37.725,-2.65 38.475,-2.65 ; 37.725,2.65 38.475,2.65 ; 40.265,-2.65 41.015,-2.65 ; 40.265,2.65 41.015,2.65 ; 42.805,-2.65 43.555,-2.65 ; 42.805,2.65 43.555,2.65 ; 45.345,-2.65 45.83,-2.65 45.83,2.65 45.345,2.65
Top Assembly:
  lines w0.254: -44.95,2.54 -44.45,1.833 -43.95,2.54 ; -45.72,-2.54 45.72,-2.54 45.72,2.54 -45.72,2.54 -45.72,-2.54
  text "'.Designator'" at -4.047,-2.68 h1
Top Courtyard:
  lines w0.254: -46.22,-4.07 46.22,-4.07 46.22,4.07 -46.22,4.07 -46.22,-4.07
Top Designator:
  text ".Designator" at -7.618,-0.508 h1.52

## Samtec_HLE-136-02-xxx-DV-BE_2x36_P2.54mm_Horizontal [mm]
pads (144):
  rect 1.27x1.68 smd: 1(-44.45,2.72) 2(-44.45,-2.72) 3(-41.91,2.72) 4(-41.91,-2.72) 5(-39.37,2.72) 6(-39.37,-2.72) 7(-36.83,2.72) 8(-36.83,-2.72) 9(-34.29,2.72) 10(-34.29,-2.72) 11(-31.75,2.72) 12(-31.75,-2.72) 13(-29.21,2.72) 14(-29.21,-2.72) 15(-26.67,2.72) 16(-26.67,-2.72) 17(-24.13,2.72) 18(-24.13,-2.72) 19(-21.59,2.72) 20(-21.59,-2.72) 21(-19.05,2.72) 22(-19.05,-2.72) 23(-16.51,2.72) 24(-16.51,-2.72) 25(-13.97,2.72) 26(-13.97,-2.72) 27(-11.43,2.72) 28(-11.43,-2.72) 29(-8.89,2.72) 30(-8.89,-2.72) 31(-6.35,2.72) 32(-6.35,-2.72) 33(-3.81,2.72) 34(-3.81,-2.72) 35(-1.27,2.72) 36(-1.27,-2.72) 37(1.27,2.72) 38(1.27,-2.72) 39(3.81,2.72) 40(3.81,-2.72) 41(6.35,2.72) 42(6.35,-2.72) 43(8.89,2.72) 44(8.89,-2.72) 45(11.43,2.72) 46(11.43,-2.72) 47(13.97,2.72) 48(13.97,-2.72) 49(16.51,2.72) 50(16.51,-2.72) 51(19.05,2.72) 52(19.05,-2.72) 53(21.59,2.72) 54(21.59,-2.72) 55(24.13,2.72) 56(24.13,-2.72) 57(26.67,2.72) 58(26.67,-2.72) 59(29.21,2.72) 60(29.21,-2.72) 61(31.75,2.72) 62(31.75,-2.72) 63(34.29,2.72) 64(34.29,-2.72) 65(36.83,2.72) 66(36.83,-2.72) 67(39.37,2.72) 68(39.37,-2.72) 69(41.91,2.72) 70(41.91,-2.72) 71(44.45,2.72) 72(44.45,-2.72)
  round 0.97 hole 0.97: Un1(-44.45,1.27) Un2(-44.45,-1.27) Un3(-41.91,1.27) Un4(-41.91,-1.27) Un5(-39.37,1.27) Un6(-39.37,-1.27) Un7(-36.83,1.27) Un8(-36.83,-1.27) Un9(-34.29,1.27) Un10(-34.29,-1.27) Un11(-31.75,1.27) Un12(-31.75,-1.27) Un13(-29.21,1.27) Un14(-29.21,-1.27) Un15(-26.67,1.27) Un16(-26.67,-1.27) Un17(-24.13,1.27) Un18(-24.13,-1.27) Un19(-21.59,1.27) Un20(-21.59,-1.27) Un21(-19.05,1.27) Un22(-19.05,-1.27) Un23(-16.51,1.27) Un24(-16.51,-1.27) Un25(-13.97,1.27) Un26(-13.97,-1.27) Un27(-11.43,1.27) Un28(-11.43,-1.27) Un29(-8.89,1.27) Un30(-8.89,-1.27) Un31(-6.35,1.27) Un32(-6.35,-1.27) Un33(-3.81,1.27) Un34(-3.81,-1.27) Un35(-1.27,1.27) Un36(-1.27,-1.27) Un37(1.27,1.27) Un38(1.27,-1.27) Un39(3.81,1.27) Un40(3.81,-1.27) Un41(6.35,1.27) Un42(6.35,-1.27) Un43(8.89,1.27) Un44(8.89,-1.27) Un45(11.43,1.27) Un46(11.43,-1.27) Un47(13.97,1.27) Un48(13.97,-1.27) Un49(16.51,1.27) Un50(16.51,-1.27) Un51(19.05,1.27) Un52(19.05,-1.27) Un53(21.59,1.27) Un54(21.59,-1.27) Un55(24.13,1.27) Un56(24.13,-1.27) Un57(26.67,1.27) Un58(26.67,-1.27) Un59(29.21,1.27) Un60(29.21,-1.27) Un61(31.75,1.27) Un62(31.75,-1.27) Un63(34.29,1.27) Un64(34.29,-1.27) Un65(36.83,1.27) Un66(36.83,-1.27) Un67(39.37,1.27) Un68(39.37,-1.27) Un69(41.91,1.27) Un70(41.91,-1.27) Un71(44.45,1.27) Un72(44.45,-1.27)
F.SilkS:
  lines w0.254: -45.345,-2.65 -45.83,-2.65 -45.83,2.65 -45.345,2.65 -45.345,3.56 ; -43.555,-2.65 -42.805,-2.65 ; -43.555,2.65 -42.805,2.65 ; -41.015,-2.65 -40.265,-2.65 ; -41.015,2.65 -40.265,2.65 ; -38.475,-2.65 -37.725,-2.65 ; -38.475,2.65 -37.725,2.65 ; -35.935,-2.65 -35.185,-2.65 ; -35.935,2.65 -35.185,2.65 ; -33.395,-2.65 -32.645,-2.65 ; -33.395,2.65 -32.645,2.65 ; -30.855,-2.65 -30.105,-2.65 ; -30.855,2.65 -30.105,2.65 ; -28.315,-2.65 -27.565,-2.65 ; -28.315,2.65 -27.565,2.65 ; -25.775,-2.65 -25.025,-2.65 ; -25.775,2.65 -25.025,2.65 ; -23.235,-2.65 -22.485,-2.65 ; -23.235,2.65 -22.485,2.65 ; -20.695,-2.65 -19.945,-2.65 ; -20.695,2.65 -19.945,2.65 ; -18.155,-2.65 -17.405,-2.65 ; -18.155,2.65 -17.405,2.65 ; -15.615,-2.65 -14.865,-2.65 ; -15.615,2.65 -14.865,2.65 ; -13.075,-2.65 -12.325,-2.65 ; -13.075,2.65 -12.325,2.65 ; -10.535,-2.65 -9.785,-2.65 ; -10.535,2.65 -9.785,2.65 ; -7.995,-2.65 -7.245,-2.65 ; -7.995,2.65 -7.245,2.65 ; -5.455,-2.65 -4.705,-2.65 ; -5.455,2.65 -4.705,2.65 ; -2.915,-2.65 -2.165,-2.65 ; -2.915,2.65 -2.165,2.65 ; -0.375,-2.65 0.375,-2.65 ; -0.375,2.65 0.375,2.65 ; 2.165,-2.65 2.915,-2.65 ; 2.165,2.65 2.915,2.65 ; 4.705,-2.65 5.455,-2.65 ; 4.705,2.65 5.455,2.65 ; 7.245,-2.65 7.995,-2.65 ; 7.245,2.65 7.995,2.65 ; 9.785,-2.65 10.535,-2.65 ; 9.785,2.65 10.535,2.65 ; 12.325,-2.65 13.075,-2.65 ; 12.325,2.65 13.075,2.65 ; 14.865,-2.65 15.615,-2.65 ; 14.865,2.65 15.615,2.65 ; 17.405,-2.65 18.155,-2.65 ; 17.405,2.65 18.155,2.65 ; 19.945,-2.65 20.695,-2.65 ; 19.945,2.65 20.695,2.65 ; 22.485,-2.65 23.235,-2.65 ; 22.485,2.65 23.235,2.65 ; 25.025,-2.65 25.775,-2.65 ; 25.025,2.65 25.775,2.65 ; 27.565,-2.65 28.315,-2.65 ; 27.565,2.65 28.315,2.65 ; 30.105,-2.65 30.855,-2.65 ; 30.105,2.65 30.855,2.65 ; 32.645,-2.65 33.395,-2.65 ; 32.645,2.65 33.395,2.65 ; 35.185,-2.65 35.935,-2.65 ; 35.185,2.65 35.935,2.65 ; 37.725,-2.65 38.475,-2.65 ; 37.725,2.65 38.475,2.65 ; 40.265,-2.65 41.015,-2.65 ; 40.265,2.65 41.015,2.65 ; 42.805,-2.65 43.555,-2.65 ; 42.805,2.65 43.555,2.65 ; 45.345,-2.65 45.83,-2.65 45.83,2.65 45.345,2.65
Top Assembly:
  lines w0.254: -44.95,2.54 -44.45,1.833 -43.95,2.54 ; -45.72,-2.54 45.72,-2.54 45.72,2.54 -45.72,2.54 -45.72,-2.54
  text "'.Designator'" at -4.047,-2.68 h1
Top Courtyard:
  lines w0.254: -46.22,-4.07 46.22,-4.07 46.22,4.07 -46.22,4.07 -46.22,-4.07
Top Designator:
  text ".Designator" at -7.618,-0.508 h1.52

## Samtec_HLE-136-02-xxx-DV-LC_2x36_P2.54mm_Horizontal [mm]
pads (74):
  rect 1.27x2.29 smd: 1(-44.45,2.525) 2(-44.45,-2.525) 3(-41.91,2.525) 4(-41.91,-2.525) 5(-39.37,2.525) 6(-39.37,-2.525) 7(-36.83,2.525) 8(-36.83,-2.525) 9(-34.29,2.525) 10(-34.29,-2.525) 11(-31.75,2.525) 12(-31.75,-2.525) 13(-29.21,2.525) 14(-29.21,-2.525) 15(-26.67,2.525) 16(-26.67,-2.525) 17(-24.13,2.525) 18(-24.13,-2.525) 19(-21.59,2.525) 20(-21.59,-2.525) 21(-19.05,2.525) 22(-19.05,-2.525) 23(-16.51,2.525) 24(-16.51,-2.525) 25(-13.97,2.525) 26(-13.97,-2.525) 27(-11.43,2.525) 28(-11.43,-2.525) 29(-8.89,2.525) 30(-8.89,-2.525) 31(-6.35,2.525) 32(-6.35,-2.525) 33(-3.81,2.525) 34(-3.81,-2.525) 35(-1.27,2.525) 36(-1.27,-2.525) 37(1.27,2.525) 38(1.27,-2.525) 39(3.81,2.525) 40(3.81,-2.525) 41(6.35,2.525) 42(6.35,-2.525) 43(8.89,2.525) 44(8.89,-2.525) 45(11.43,2.525) 46(11.43,-2.525) 47(13.97,2.525) 48(13.97,-2.525) 49(16.51,2.525) 50(16.51,-2.525) 51(19.05,2.525) 52(19.05,-2.525) 53(21.59,2.525) 54(21.59,-2.525) 55(24.13,2.525) 56(24.13,-2.525) 57(26.67,2.525) 58(26.67,-2.525) 59(29.21,2.525) 60(29.21,-2.525) 61(31.75,2.525) 62(31.75,-2.525) 63(34.29,2.525) 64(34.29,-2.525) 65(36.83,2.525) 66(36.83,-2.525) 67(39.37,2.525) 68(39.37,-2.525) 69(41.91,2.525) 70(41.91,-2.525) 71(44.45,2.525) 72(44.45,-2.525)
  round 1.19 hole 1.19: Un1(-43.18,0) Un2(43.18,0)
F.SilkS:
  lines w0.254: -45.345,-2.65 -45.83,-2.65 -45.83,2.65 -45.345,2.65 -45.345,3.67 ; -43.555,-2.65 -42.805,-2.65 ; -43.555,2.65 -42.805,2.65 ; -41.015,-2.65 -40.265,-2.65 ; -41.015,2.65 -40.265,2.65 ; -38.475,-2.65 -37.725,-2.65 ; -38.475,2.65 -37.725,2.65 ; -35.935,-2.65 -35.185,-2.65 ; -35.935,2.65 -35.185,2.65 ; -33.395,-2.65 -32.645,-2.65 ; -33.395,2.65 -32.645,2.65 ; -30.855,-2.65 -30.105,-2.65 ; -30.855,2.65 -30.105,2.65 ; -28.315,-2.65 -27.565,-2.65 ; -28.315,2.65 -27.565,2.65 ; -25.775,-2.65 -25.025,-2.65 ; -25.775,2.65 -25.025,2.65 ; -23.235,-2.65 -22.485,-2.65 ; -23.235,2.65 -22.485,2.65 ; -20.695,-2.65 -19.945,-2.65 ; -20.695,2.65 -19.945,2.65 ; -18.155,-2.65 -17.405,-2.65 ; -18.155,2.65 -17.405,2.65 ; -15.615,-2.65 -14.865,-2.65 ; -15.615,2.65 -14.865,2.65 ; -13.075,-2.65 -12.325,-2.65 ; -13.075,2.65 -12.325,2.65 ; -10.535,-2.65 -9.785,-2.65 ; -10.535,2.65 -9.785,2.65 ; -7.995,-2.65 -7.245,-2.65 ; -7.995,2.65 -7.245,2.65 ; -5.455,-2.65 -4.705,-2.65 ; -5.455,2.65 -4.705,2.65 ; -2.915,-2.65 -2.165,-2.65 ; -2.915,2.65 -2.165,2.65 ; -0.375,-2.65 0.375,-2.65 ; -0.375,2.65 0.375,2.65 ; 2.165,-2.65 2.915,-2.65 ; 2.165,2.65 2.915,2.65 ; 4.705,-2.65 5.455,-2.65 ; 4.705,2.65 5.455,2.65 ; 7.245,-2.65 7.995,-2.65 ; 7.245,2.65 7.995,2.65 ; 9.785,-2.65 10.535,-2.65 ; 9.785,2.65 10.535,2.65 ; 12.325,-2.65 13.075,-2.65 ; 12.325,2.65 13.075,2.65 ; 14.865,-2.65 15.615,-2.65 ; 14.865,2.65 15.615,2.65 ; 17.405,-2.65 18.155,-2.65 ; 17.405,2.65 18.155,2.65 ; 19.945,-2.65 20.695,-2.65 ; 19.945,2.65 20.695,2.65 ; 22.485,-2.65 23.235,-2.65 ; 22.485,2.65 23.235,2.65 ; 25.025,-2.65 25.775,-2.65 ; 25.025,2.65 25.775,2.65 ; 27.565,-2.65 28.315,-2.65 ; 27.565,2.65 28.315,2.65 ; 30.105,-2.65 30.855,-2.65 ; 30.105,2.65 30.855,2.65 ; 32.645,-2.65 33.395,-2.65 ; 32.645,2.65 33.395,2.65 ; 35.185,-2.65 35.935,-2.65 ; 35.185,2.65 35.935,2.65 ; 37.725,-2.65 38.475,-2.65 ; 37.725,2.65 38.475,2.65 ; 40.265,-2.65 41.015,-2.65 ; 40.265,2.65 41.015,2.65 ; 42.805,-2.65 43.555,-2.65 ; 42.805,2.65 43.555,2.65 ; 45.345,-2.65 45.83,-2.65 45.83,2.65 45.345,2.65
Top Assembly:
  lines w0.254: -44.95,2.54 -44.45,1.833 -43.95,2.54 ; -45.72,-2.54 45.72,-2.54 45.72,2.54 -45.72,2.54 -45.72,-2.54
  text "'.Designator'" at -4.047,-2.68 h1
Top Courtyard:
  lines w0.254: -46.22,-4.17 46.22,-4.17 46.22,4.17 -46.22,4.17 -46.22,-4.17
Top Designator:
  text ".Designator" at -7.618,-0.508 h1.52